# EAGLE library part PCF85263 (library Badge)
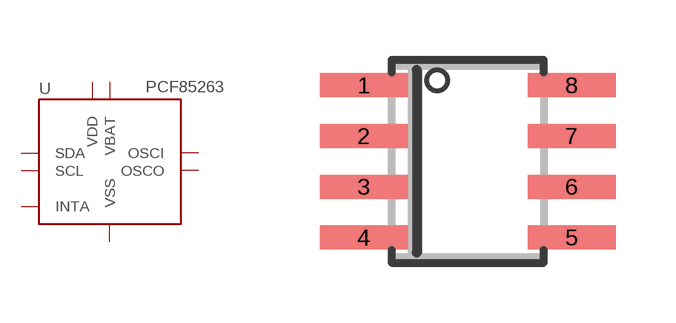
[diagram p6: symbol with the pads of SOIC8; footprint SOIC8]

Designator prefix U

## PCF85263  [SOIC8]
1  OSCI
2  OSCO
3  VBAT
4  VSS
5  SDA
6  SCL
7  INTA
8  VDD

## Footprint SOIC8 (pad centres in mm)
Small Outline IC
smd 2.2 x 0.6: 1 -2.6,1.905; 2 -2.6,0.635; 3 -2.6,-0.635; 4 -2.6,-1.905; 5 2.6,-1.905; 6 2.6,-0.635; 7 2.6,0.635; 8 2.6,1.905